# Altium integrated library NXP_60_26022015.IntLib: 1306 symbols (part 22 of 28)
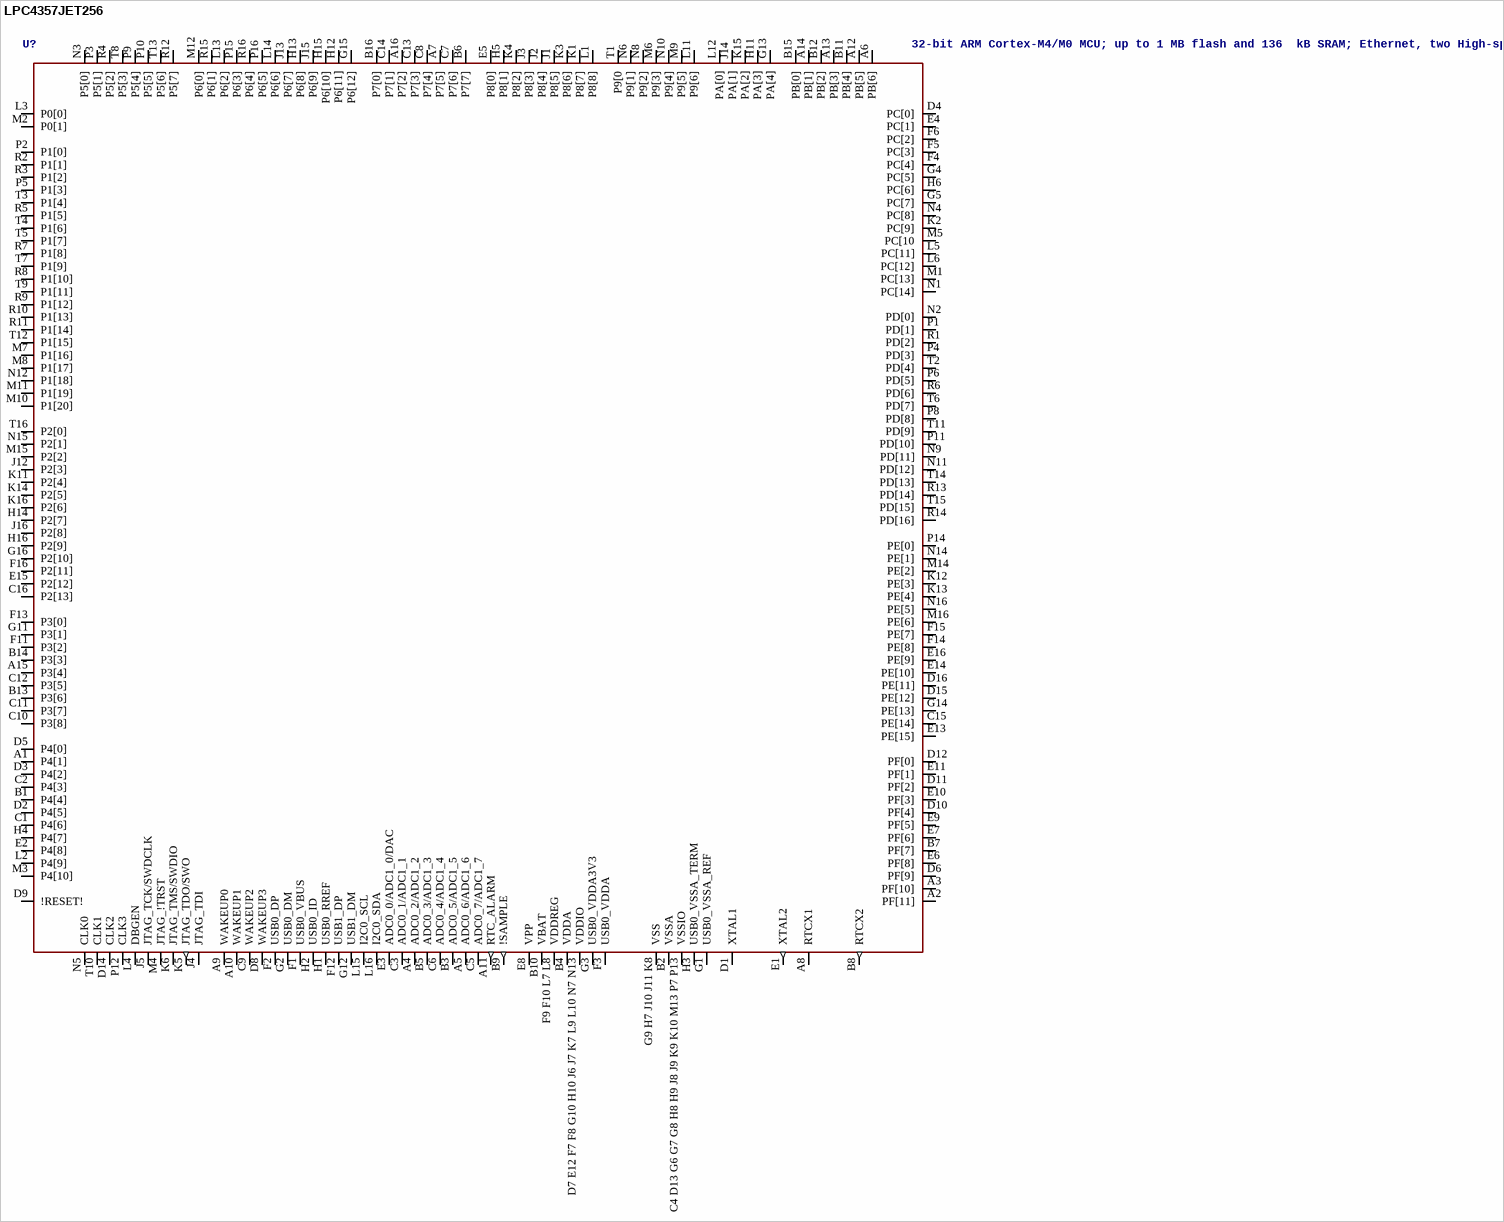
[diagram p206: symbol LPC4357JET256]

## LPC4357JET256
designator U?, comment 32-bit ARM Cortex-M4/M0 MCU; up to 1 MB flash and 136  kB SRAM; Ethernet, two High-speed USB, LCD, EMC The LPC435x/3x/2x/1x are ARM Cortex-M4 based microcontrollers for embedded applications which include an ARM Cortex-M0 coprocessor, up to 1 MB of flash and 136 kB of on-chip SRAM, 16 kB of EEPROM memory, a quad SPI Flash Interface (SPIFI), advanced configurable peripherals such as the State Configurable Timer (SCT) and the Serial General Purpose I/O (SGPIO) interface, two High-speed USB controllers, Ethernet, LCD, an external memory controller, and multiple digital and analog peripherals. The LPC435x/3x/2x/1x operate at CPU frequencies of up to 204 MHz. The ARM Cortex-M4 is a next generation 32-bit core that offers system enhancements such as low power consumption, enhanced debug features, and a high level of support block integration. The ARM Cortex-M4 CPU incorporates a 3-stage pipeline, uses a Harvard architecture with separate local instruction and data buses as well as a third bus for peripherals, and includes an internal prefetch unit that supports speculative branching. The ARM Cortex-M4 supports single-cycle digital signal processing and SIMD instructions. A hardware floating-point unit is integrated in the core. The ARM Cortex-M0 coprocessor is an energy-efficient and easy-to-use 32-bit core which is upward code- and tool-compatible with the Cortex-M4 core. The Cortex-M0 coprocessor, designed as a replacement for existing 8/16-bit microcontrollers, offers up to 204 MHz performance with a simple instruction set and reduced code size.    AAL Eindhoven MK
footprint SOT740-2
pins: A1 P4[1], A2 PF[11], A3 PF[10], A4 ADC0_2/ADC1_2, A5 ADC0_6/ADC1_6, A6 PB[6], A7 P7[5], A8 RTCX1, A9 WAKEUP0, A10 WAKEUP1, A11 RTC_ALARM (out), A12 PB[5], A13 PB[3], A14 PB[1], A15 P3[4], A16 P7[2], B1 P4[4], B2 VSSA (power), B3 ADC0_5/ADC1_5, B4 VDDA (power), B5 ADC0_3/ADC1_3, B6 P7[7], B7 PF[7], B8 RTCX2 (out), B9 !SAMPLE (out), B10 VBAT (power), B11 PB[4], B12 PB[2], B13 P3[6], B14 P3[3], B15 PB[0], B16 P7[0], C1 P4[6], C2 P4[3], C3 ADC0_1/ADC1_1, C4 D13 G6 G7 G8 H8 H9 J8 J9 K9 K10 M13 P7 P13 VSSIO (power), C5 ADC0_7/ADC1_7, C6 ADC0_4/ADC1_4, C7 P7[6], C8 P7[4], C9 WAKEUP2, C10 P3[8], C11 P3[7], C12 P3[5], C13 P7[3], C14 P7[1], C15 PE[14], C16 P2[13], D1 XTAL1, D2 P4[5], D3 P4[2], D4 PC[0], D5 P4[0], D6 PF[9], D7 E12 F7 F8 G10 H10 J6 J7 K7 L9 L10 N7 N13 VDDIO (power), D8 WAKEUP3, D9 !RESET!, D10 PF[4], D11 PF[2], D12 PF[0], D14 CLK2, D15 PE[12], D16 PE[11], E1 XTAL2 (out), E2 P4[8], E3 ADC0_0/ADC1_0/DAC, E4 PC[1], E5 P8[0], E6 PF[8], E7 PF[6], E8 VPP (power), E9 PF[5], E10 PF[3], E11 PF[1], E13 PE[15], E14 PE[10], E15 P2[12], E16 PE[9], F1 USB0_VBUS, F2 USB0_DP, F3 USB0_VDDA (power), F4 PC[4], F5 PC[3], F6 PC[2], F9 F10 L7 L8 VDDREG (power), F11 P3[2], F12 USB1_DP, F13 P3[0], F14 PE[8], F15 PE[7], F16 P2[11], G1 USB0_VSSA_REF (power), G2 USB0_DM, G3 USB0_VDDA3V3 (power), G4 PC[5], G5 PC[7], G9 H7 J10 J11 K8 VSS (power), G11 P3[1], G12 USB1_DM, G13 PA[4], G14 PE[13], G15 P6[12], G16 P2[10], H1 USB0_RREF, H2 USB0_ID, H3 USB0_VSSA_TERM (power), H4 P4[7], H5 P8[1], H6 PC[6], H11 PA[3], H12 P6[11], H13 P6[8], H14 P2[7], H15 P6[10], H16 P2[9], J1 P8[5], J2 P8[4], J3 P8[3], J4 JTAG_TDI, J5 JTAG_TCK/SWDCLK, J12 P2[3], J13 P6[7], J14 PA[1], J15 P6[9], J16 P2[8], K1 P8[7], K2 PC[9], K3 P8[6], K4 P8[2], K5 JTAG_TDO/SWO (out), K6 JTAG_TMS/SWDIO, K11 P2[4], K12 PE[3], K13 PE[4], K14 P2[5], K15 PA[2], K16 P2[6], L1 P8[8], L2 P4[9], L3 P0[0], L4 DBGEN, L5 PC[11], L6 PC[12], L11 P9[6], L12 PA[0], L13 P6[2], L14 P6[6], L15 I2C0_SCL, L16 I2C0_SDA, M1 PC[13], M2 P0[1], M3 P4[10], M4 JTAG_!TRST, M5 PC[10, M6 P9[3], M7 P1[16], M8 P1[17], M9 P9[5], M10 P1[20], M11 P1[19], M12 P6[0], M14 PE[2], M15 P2[2], M16 PE[6], N1 PC[14], N2 PD[0], N3 P5[0], N4 PC[8], N5 CLK0, N6 P9[1], N8 P9[2], N9 PD[11], N10 P9[4], N11 PD[12], N12 P1[18], N14 PE[1], N15 P2[1], N16 PE[5], P1 PD[1], P2 P1[0], P3 P5[1], P4 PD[3], P5 P1[3], P6 PD[5], P8 PD[8], P9 P5[4], P10 P5[5], P11 PD[10], P12 CLK3, P14 PE[0], P15 P6[3], P16 P6[5], R1 PD[2], R2 P1[1], R3 P1[2], R4 P5[2], R5 P1[5], R6 PD[6], R7 P1[8], R8 P1[10], R9 P1[12], R10 P1[13], R11 P1[14], R12 P5[7], R13 PD[14], R14 PD[16], R15 P6[1], R16 P6[4], T1 P9[0, T2 PD[4], T3 P1[4], T4 P1[6], T5 P1[7], T6 PD[7], T7 P1[9], T8 P5[3], T9 P1[11], T10 CLK1, T11 PD[9], T12 P1[15], T13 P5[6], T14 PD[13], T15 PD[15], T16 P2[0]

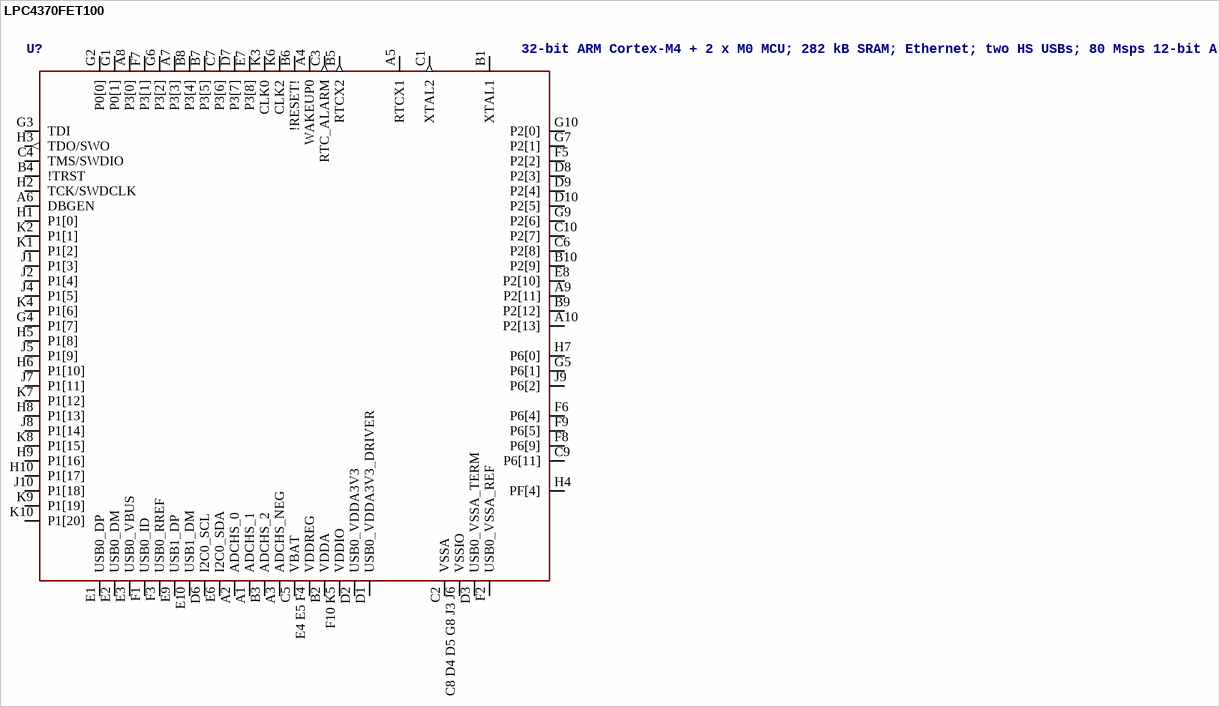
[diagram p150: symbol LPC4370FET100]

## LPC4370FET100
designator U?, comment 32-bit ARM Cortex-M4 + 2 x M0 MCU; 282 kB SRAM; Ethernet; two HS USBs; 80 Msps 12-bit ADC; configurable peripherals The LPC4370 are ARM Cortex-M4 based microcontrollers for embedded applications which include an ARM Cortex-M0 coprocessor and an ARM Cortex-M0 subsystem for managing peripherals, 282 kB of SRAM, advanced configurable peripherals such as the State Configurable Timer (SCT) and the Serial General Purpose I/O (SGPIO) interface, two High-speed USB controllers, Ethernet, LCD, an external memory controller, and multiple digital and analog peripherals including a high-speed 12-bit ADC. The LPC4370 operate at CPU frequencies of up to 204 MHz. The ARM Cortex-M4 is a next generation 32-bit core that offers system enhancements such as low power consumption, enhanced debug features, and a high level of support block integration. The ARM Cortex-M4 CPU incorporates a 3-stage pipeline, uses a Harvard architecture with separate local instruction and data buses as well as a third bus for peripherals, and includes an internal prefetch unit that supports speculative branching. The ARM Cortex-M4 supports single-cycle digital signal processing and SIMD instructions. A hardware floating-point processor is integrated in the core. The LPC4370 include an application ARM Cortex-M0 coprocessor and a second ARM Cortex-M0 subsystem for managing the SGPIO and SPI peripherals. The ARM Cortex-M0 core is an energy-efficient and easy-to-use 32-bit core which is code- and tool-compatible with the Cortex-M4 core. Both Cortex-M0 cores offer up to 204 MHz performance with a simple instruction set and reduced code size.    AAL Eindhoven MK
footprint SOT926-1
pins: A1 ADCHS_1, A2 ADCHS_0, A3 ADCHS_NEG, A4 WAKEUP0, A5 RTCX1, A6 DBGEN, A7 P3[3], A8 P3[0], A9 P2[11], A10 P2[13], B1 XTAL1, B2 VDDA (power), B3 ADCHS_2, B4 !TRST, B5 RTCX2 (out), B6 !RESET!, B7 P3[5], B8 P3[4], B9 P2[12], B10 P2[9], C1 XTAL2 (out), C2 VSSA (power), C3 RTC_ALARM (out), C4 TMS/SWDIO, C5 VBAT (power), C6 P2[8], C7 P3[6], C8 D4 D5 G8 J3 J6 VSSIO (power), C9 P6[11], C10 P2[7], D1 USB0_VDDA3V3_DRIVER (power), D2 USB0_VDDA3V3 (power), D3 USB0_VSSA_TERM (power), D6 I2C0_SCL, D7 P3[7], D8 P2[3], D9 P2[4], D10 P2[5], E1 USB0_DP, E2 USB0_DM, E3 USB0_VBUS, E4 E5 F4 VDDREG (power), E6 I2C0_SDA, E7 P3[8], E8 P2[10], E9 USB1_DP, E10 USB1_DM, F1 USB0_ID, F2 USB0_VSSA_REF (power), F3 USB0_RREF, F5 P2[2], F6 P6[4], F7 P3[1], F8 P6[9], F9 P6[5], F10 K5 VDDIO (power), G1 P0[1], G2 P0[0], G3 TDI, G4 P1[7], G5 P6[1], G6 P3[2], G7 P2[1], G9 P2[6], G10 P2[0], H1 P1[0], H2 TCK/SWDCLK, H3 TDO/SWO (out), H4 PF[4], H5 P1[8], H6 P1[10], H7 P6[0], H8 P1[13], H9 P1[16], H10 P1[17], J1 P1[3], J2 P1[4], J4 P1[5], J5 P1[9], J7 P1[11], J8 P1[14], J9 P6[2], J10 P1[18], K1 P1[2], K2 P1[1], K3 CLK0, K4 P1[6], K6 CLK2, K7 P1[12], K8 P1[15], K9 P1[19], K10 P1[20]

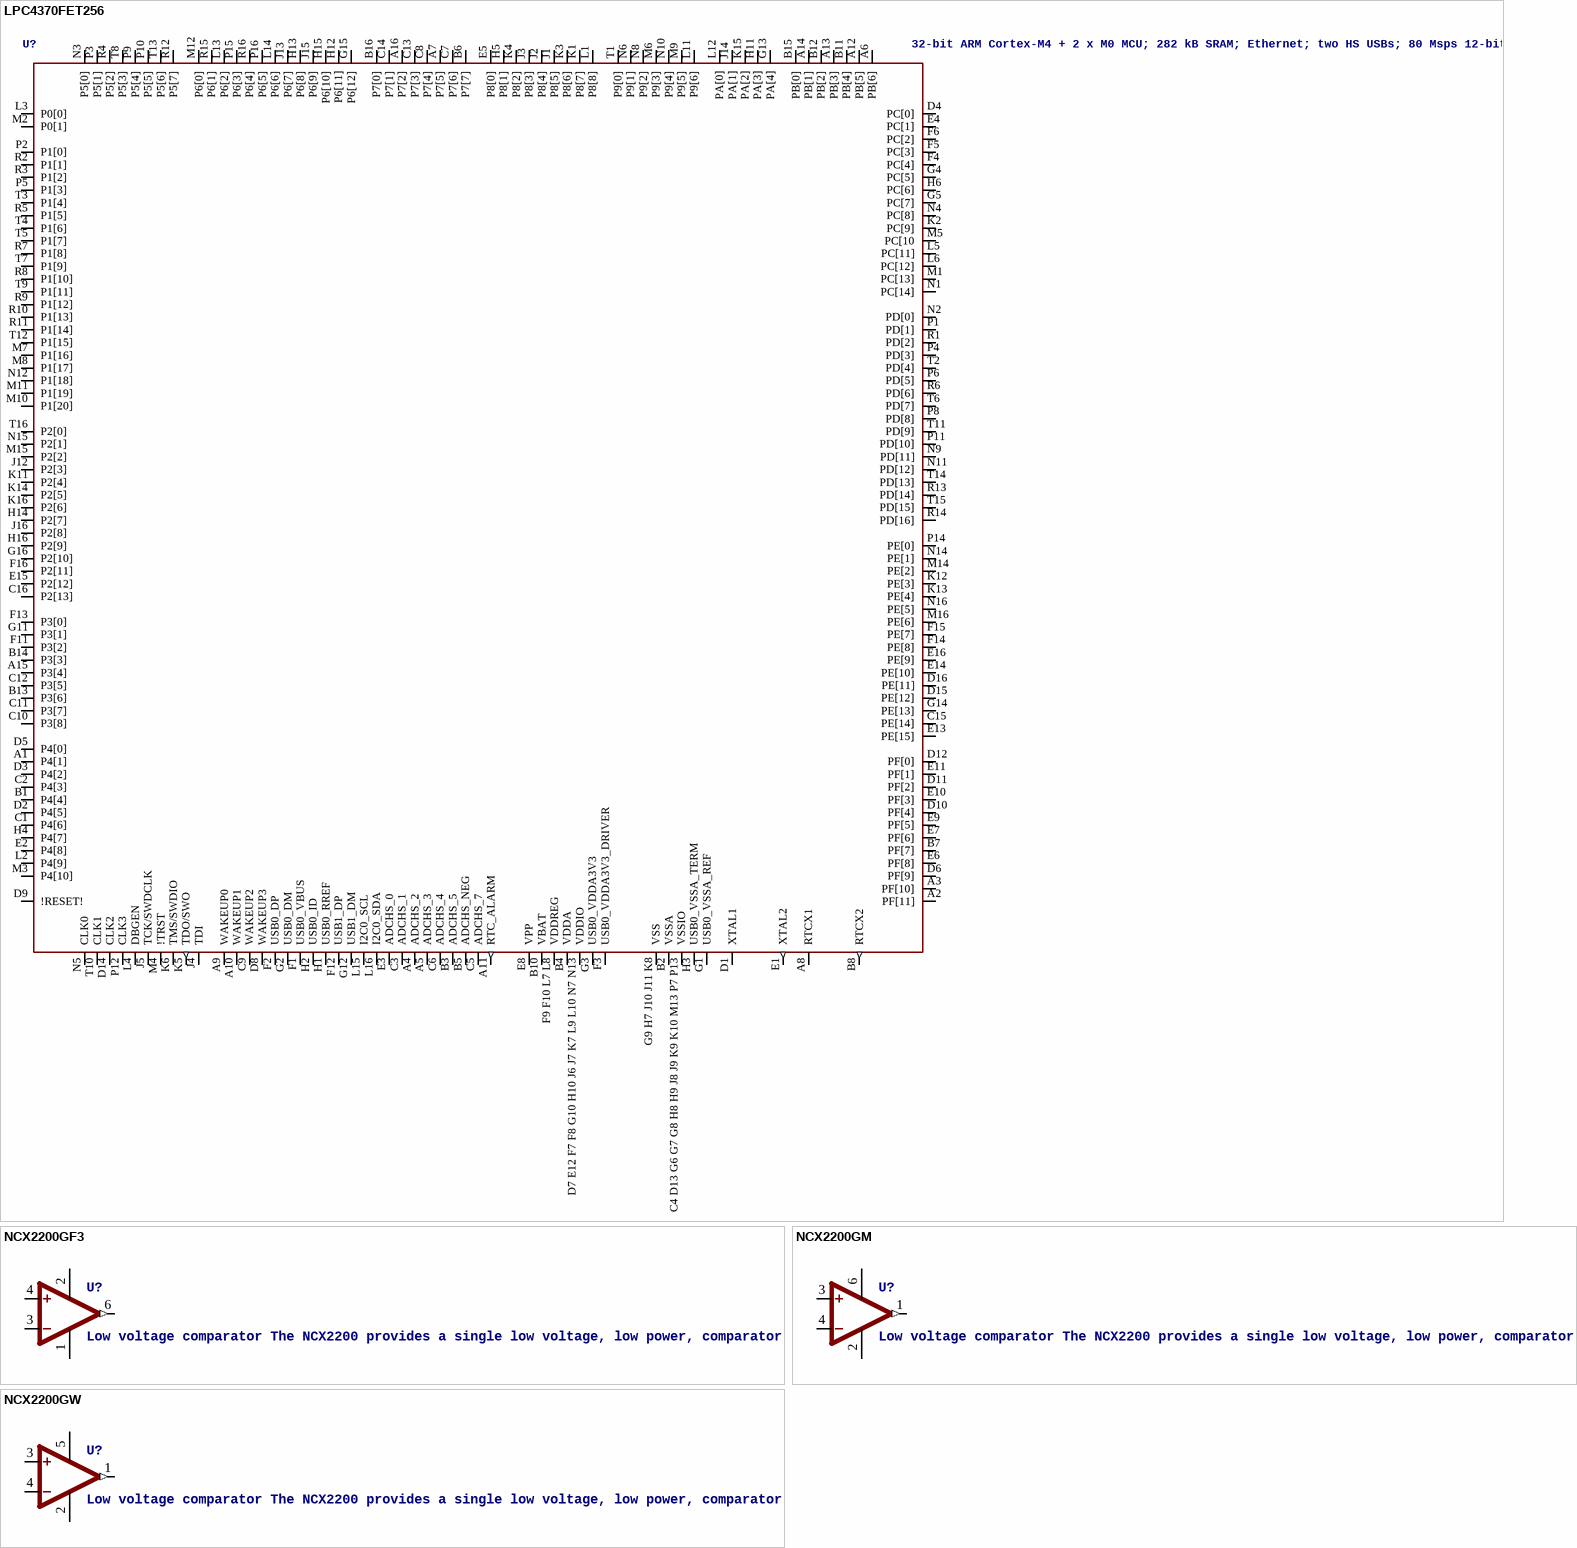
[diagram p151: symbols LPC4370FET256 to NCX2200GW]

## LPC4370FET256
designator U?, comment 32-bit ARM Cortex-M4 + 2 x M0 MCU; 282 kB SRAM; Ethernet; two HS USBs; 80 Msps 12-bit ADC; configurable peripherals The LPC4370 are ARM Cortex-M4 based microcontrollers for embedded applications which include an ARM Cortex-M0 coprocessor and an ARM Cortex-M0 subsystem for managing peripherals, 282 kB of SRAM, advanced configurable peripherals such as the State Configurable Timer (SCT) and the Serial General Purpose I/O (SGPIO) interface, two High-speed USB controllers, Ethernet, LCD, an external memory controller, and multiple digital and analog peripherals including a high-speed 12-bit ADC. The LPC4370 operate at CPU frequencies of up to 204 MHz. The ARM Cortex-M4 is a next generation 32-bit core that offers system enhancements such as low power consumption, enhanced debug features, and a high level of support block integration. The ARM Cortex-M4 CPU incorporates a 3-stage pipeline, uses a Harvard architecture with separate local instruction and data buses as well as a third bus for peripherals, and includes an internal prefetch unit that supports speculative branching. The ARM Cortex-M4 supports single-cycle digital signal processing and SIMD instructions. A hardware floating-point processor is integrated in the core. The LPC4370 include an application ARM Cortex-M0 coprocessor and a second ARM Cortex-M0 subsystem for managing the SGPIO and SPI peripherals. The ARM Cortex-M0 core is an energy-efficient and easy-to-use 32-bit core which is code- and tool-compatible with the Cortex-M4 core. Both Cortex-M0 cores offer up to 204 MHz performance with a simple instruction set and reduced code size.    AAL Eindhoven MK
footprint SOT740-2
pins: A1 P4[1], A2 PF[11], A3 PF[10], A4 ADCHS_2, A5 ADCHS_3, A6 PB[6], A7 P7[5], A8 RTCX1, A9 WAKEUP0, A10 WAKEUP1, A11 RTC_ALARM (out), A12 PB[5], A13 PB[3], A14 PB[1], A15 P3[4], A16 P7[2], B1 P4[4], B2 VSSA (power), B3 ADCHS_5, B4 VDDA (power), B5 ADCHS_NEG, B6 P7[7], B7 PF[7], B8 RTCX2 (out), B10 VBAT (power), B11 PB[4], B12 PB[2], B13 P3[6], B14 P3[3], B15 PB[0], B16 P7[0], C1 P4[6], C2 P4[3], C3 ADCHS_1, C4 D13 G6 G7 G8 H8 H9 J8 J9 K9 K10 M13 P7 P13 VSSIO (power), C5 ADCHS_7, C6 ADCHS_4, C7 P7[6], C8 P7[4], C9 WAKEUP2, C10 P3[8], C11 P3[7], C12 P3[5], C13 P7[3], C14 P7[1], C15 PE[14], C16 P2[13], D1 XTAL1, D2 P4[5], D3 P4[2], D4 PC[0], D5 P4[0], D6 PF[9], D7 E12 F7 F8 G10 H10 J6 J7 K7 L9 L10 N7 N13 VDDIO (power), D8 WAKEUP3, D9 !RESET!, D10 PF[4], D11 PF[2], D12 PF[0], D14 CLK2, D15 PE[12], D16 PE[11], E1 XTAL2 (out), E2 P4[8], E3 ADCHS_0, E4 PC[1], E5 P8[0], E6 PF[8], E7 PF[6], E8 VPP (power), E9 PF[5], E10 PF[3], E11 PF[1], E13 PE[15], E14 PE[10], E15 P2[12], E16 PE[9], F1 USB0_VBUS, F2 USB0_DP, F3 USB0_VDDA3V3_DRIVER (power), F4 PC[4], F5 PC[3], F6 PC[2], F9 F10 L7 L8 VDDREG (power), F11 P3[2], F12 USB1_DP, F13 P3[0], F14 PE[8], F15 PE[7], F16 P2[11], G1 USB0_VSSA_REF (power), G2 USB0_DM, G3 USB0_VDDA3V3 (power), G4 PC[5], G5 PC[7], G9 H7 J10 J11 K8 VSS (power), G11 P3[1], G12 USB1_DM, G13 PA[4], G14 PE[13], G15 P6[12], G16 P2[10], H1 USB0_RREF, H2 USB0_ID, H3 USB0_VSSA_TERM (power), H4 P4[7], H5 P8[1], H6 PC[6], H11 PA[3], H12 P6[11], H13 P6[8], H14 P2[7], H15 P6[10], H16 P2[9], J1 P8[5], J2 P8[4], J3 P8[3], J4 TDI, J5 TCK/SWDCLK, J12 P2[3], J13 P6[7], J14 PA[1], J15 P6[9], J16 P2[8], K1 P8[7], K2 PC[9], K3 P8[6], K4 P8[2], K5 TDO/SWO (out), K6 TMS/SWDIO, K11 P2[4], K12 PE[3], K13 PE[4], K14 P2[5], K15 PA[2], K16 P2[6], L1 P8[8], L2 P4[9], L3 P0[0], L4 DBGEN, L5 PC[11], L6 PC[12], L11 P9[6], L12 PA[0], L13 P6[2], L14 P6[6], L15 I2C0_SCL, L16 I2C0_SDA, M1 PC[13], M2 P0[1], M3 P4[10], M4 !TRST, M5 PC[10, M6 P9[3], M7 P1[16], M8 P1[17], M9 P9[5], M10 P1[20], M11 P1[19], M12 P6[0], M14 PE[2], M15 P2[2], M16 PE[6], N1 PC[14], N2 PD[0], N3 P5[0], N4 PC[8], N5 CLK0, N6 P9[1], N8 P9[2], N9 PD[11], N10 P9[4], N11 PD[12], N12 P1[18], N14 PE[1], N15 P2[1], N16 PE[5], P1 PD[1], P2 P1[0], P3 P5[1], P4 PD[3], P5 P1[3], P6 PD[5], P8 PD[8], P9 P5[4], P10 P5[5], P11 PD[10], P12 CLK3, P14 PE[0], P15 P6[3], P16 P6[5], R1 PD[2], R2 P1[1], R3 P1[2], R4 P5[2], R5 P1[5], R6 PD[6], R7 P1[8], R8 P1[10], R9 P1[12], R10 P1[13], R11 P1[14], R12 P5[7], R13 PD[14], R14 PD[16], R15 P6[1], R16 P6[4], T1 P9[0], T2 PD[4], T3 P1[4], T4 P1[6], T5 P1[7], T6 PD[7], T7 P1[9], T8 P5[3], T9 P1[11], T10 CLK1, T11 PD[9], T12 P1[15], T13 P5[6], T14 PD[13], T15 PD[15], T16 P2[0]

## NCX2200GF3
designator U?, comment Low voltage comparator The NCX2200 provides a single low voltage, low power, comparator. The NCX2200 has a very low supply current of 6 A and is guaranteed to operate at a low voltage of 1.3 V and is fully operational up to 5.5 V. These characteristics make the device convenient for use in both 3.0 V and 5.0 V systems.   AAL Eindhoven MK
footprint SOT891
pins: 1 VEE (power), 2 VCC (power), 3 -IN, 4 +IN, 6 OUT (out)

## NCX2200GM
designator U?, comment Low voltage comparator The NCX2200 provides a single low voltage, low power, comparator. The NCX2200 has a very low supply current of 6 A and is guaranteed to operate at a low voltage of 1.3 V and is fully operational up to 5.5 V. These characteristics make the device convenient for use in both 3.0 V and 5.0 V systems.   AAL Eindhoven MK
footprint SOT886
pins: 1 OUT (out), 2 VEE (power), 3 +IN, 4 -IN, 6 VCC (power)

## NCX2200GW
designator U?, comment Low voltage comparator The NCX2200 provides a single low voltage, low power, comparator. The NCX2200 has a very low supply current of 6 A and is guaranteed to operate at a low voltage of 1.3 V and is fully operational up to 5.5 V. These characteristics make the device convenient for use in both 3.0 V and 5.0 V systems.   AAL Eindhoven MK
footprint SOT353-1
pins: 1 OUT (out), 2 VEE (power), 3 +IN, 4 -IN, 5 VCC (power)

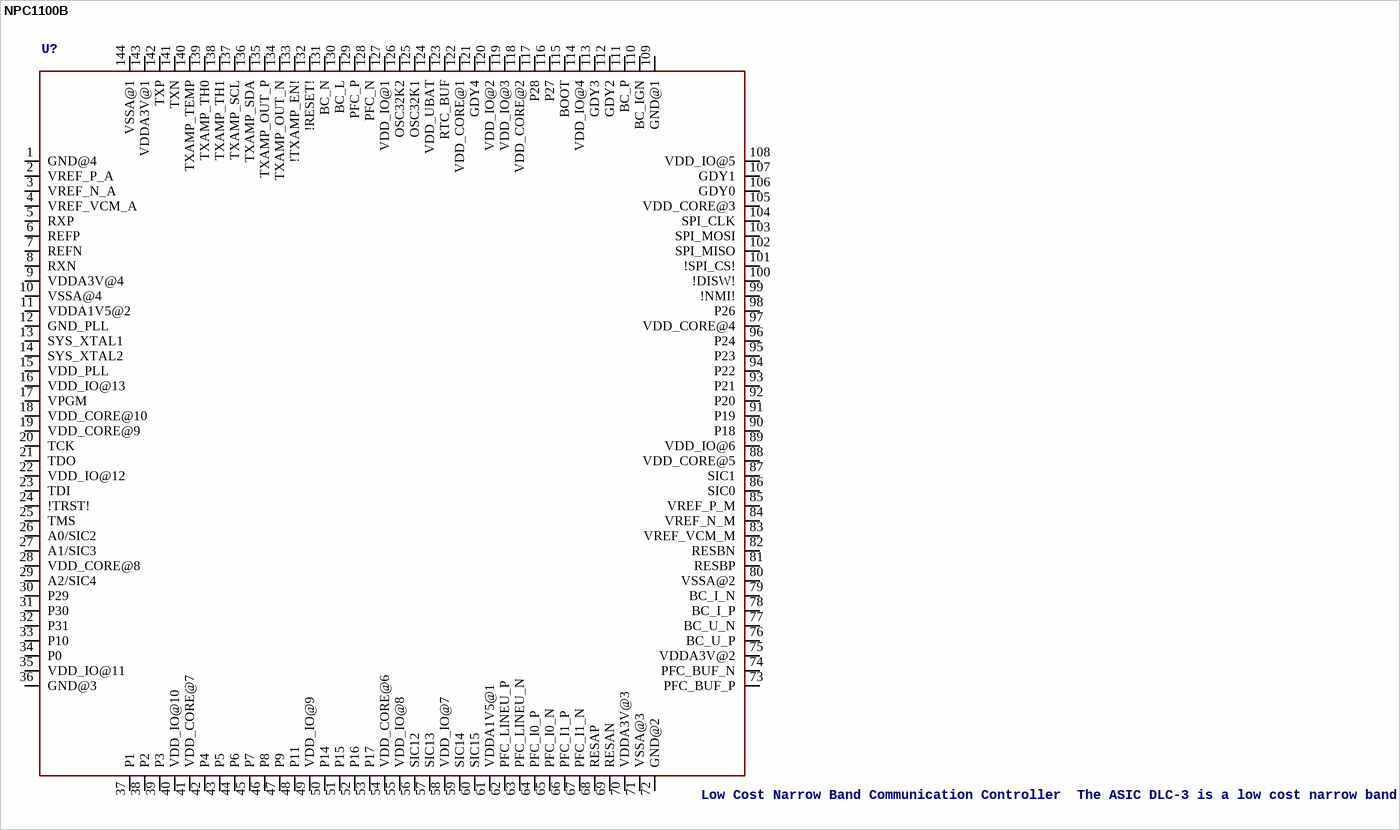
[diagram p152: symbol NPC1100B]

## NPC1100B
designator U?, comment Low Cost Narrow Band Communication Controller  The ASIC DLC-3 is a low cost narrow band communication controller MCM (Multi Carrier Modulation) and power line chip. The integrated ARMÒ CortexTM CPU, memory and common interfaces makes it possible to build different systems with a minimum of external components. For communication with DLC-3 the most popular interfaces like Ethernet MII, SPI, several freely configurable serial interfaces and general IO ports for CPU and DSC are included. The ASIC includes all components for a power-line communication while Analog Front End and Power Amplifier are already integrated. With its On-Chip Power-Factor-Correction, Ballast Control and 4 PWM outputs the LCI is a optimal solution for lighting control units. The freely configurable serial interfaces makes it easy to build electronic power meters for smart-metering applications.   AAL Eindhoven MK
footprint SOT486-1
pins: 1 GND@4, 2 VREF_P_A, 3 VREF_N_A, 4 VREF_VCM_A, 5 RXP, 6 REFP, 7 REFN, 8 RXN, 9 VDDA3V@4, 10 VSSA@4, 11 VDDA1V5@2, 12 GND_PLL, 13 SYS_XTAL1, 14 SYS_XTAL2, 15 VDD_PLL, 16 VDD_IO@13, 17 VPGM, 18 VDD_CORE@10, 19 VDD_CORE@9, 20 TCK, 21 TDO, 22 VDD_IO@12, 23 TDI, 24 !TRST!, 25 TMS, 26 A0/SIC2, 27 A1/SIC3, 28 VDD_CORE@8, 29 A2/SIC4, 30 P29, 31 P30, 32 P31, 33 P10, 34 P0, 35 VDD_IO@11, 36 GND@3, 37 P1, 38 P2, 39 P3, 40 VDD_IO@10, 41 VDD_CORE@7, 42 P4, 43 P5, 44 P6, 45 P7, 46 P8, 47 P9, 48 P11, 49 VDD_IO@9, 50 P14, 51 P15, 52 P16, 53 P17, 54 VDD_CORE@6, 55 VDD_IO@8, 56 SIC12, 57 SIC13, 58 VDD_IO@7, 59 SIC14, 60 SIC15, 61 VDDA1V5@1, 62 PFC_LINEU_P, 63 PFC_LINEU_N, 64 PFC_I0_P, 65 PFC_I0_N, 66 PFC_I1_P, 67 PFC_I1_N, 68 RESAP, 69 RESAN, 70 VDDA3V@3, 71 VSSA@3, 72 GND@2, 73 PFC_BUF_P, 74 PFC_BUF_N, 75 VDDA3V@2, 76 BC_U_P, 77 BC_U_N, 78 BC_I_P, 79 BC_I_N, 80 VSSA@2, 81 RESBP, 82 RESBN, 83 VREF_VCM_M, 84 VREF_N_M, 85 VREF_P_M, 86 SIC0, 87 SIC1, 88 VDD_CORE@5, 89 VDD_IO@6, 90 P18, 91 P19, 92 P20, 93 P21, 94 P22, 95 P23, 96 P24, 97 VDD_CORE@4, 98 P26, 99 !NMI!, 100 !DISW!, 101 !SPI_CS!, 102 SPI_MISO, 103 SPI_MOSI, 104 SPI_CLK, 105 VDD_CORE@3, 106 GDY0, 107 GDY1, 108 VDD_IO@5, 109 GND@1, 110 BC_IGN, 111 BC_P, 112 GDY2, 113 GDY3, 114 VDD_IO@4, 115 BOOT, 116 P27, 117 P28, 118 VDD_CORE@2, 119 VDD_IO@3, 120 VDD_IO@2, 121 GDY4, 122 VDD_CORE@1, 123 RTC_BUF, 124 VDD_UBAT, 125 OSC32K1, 126 OSC32K2, 127 VDD_IO@1, 128 PFC_N, 129 PFC_P, 130 BC_L, 131 BC_N, 132 !RESET!, 133 !TXAMP_EN!, 134 TXAMP_OUT_N, 135 TXAMP_OUT_P, 136 TXAMP_SDA, 137 TXAMP_SCL, 138 TXAMP_TH1, 139 TXAMP_TH0, 140 TXAMP_TEMP, 141 TXN, 142 TXP, 143 VDDA3V@1, 144 VSSA@1

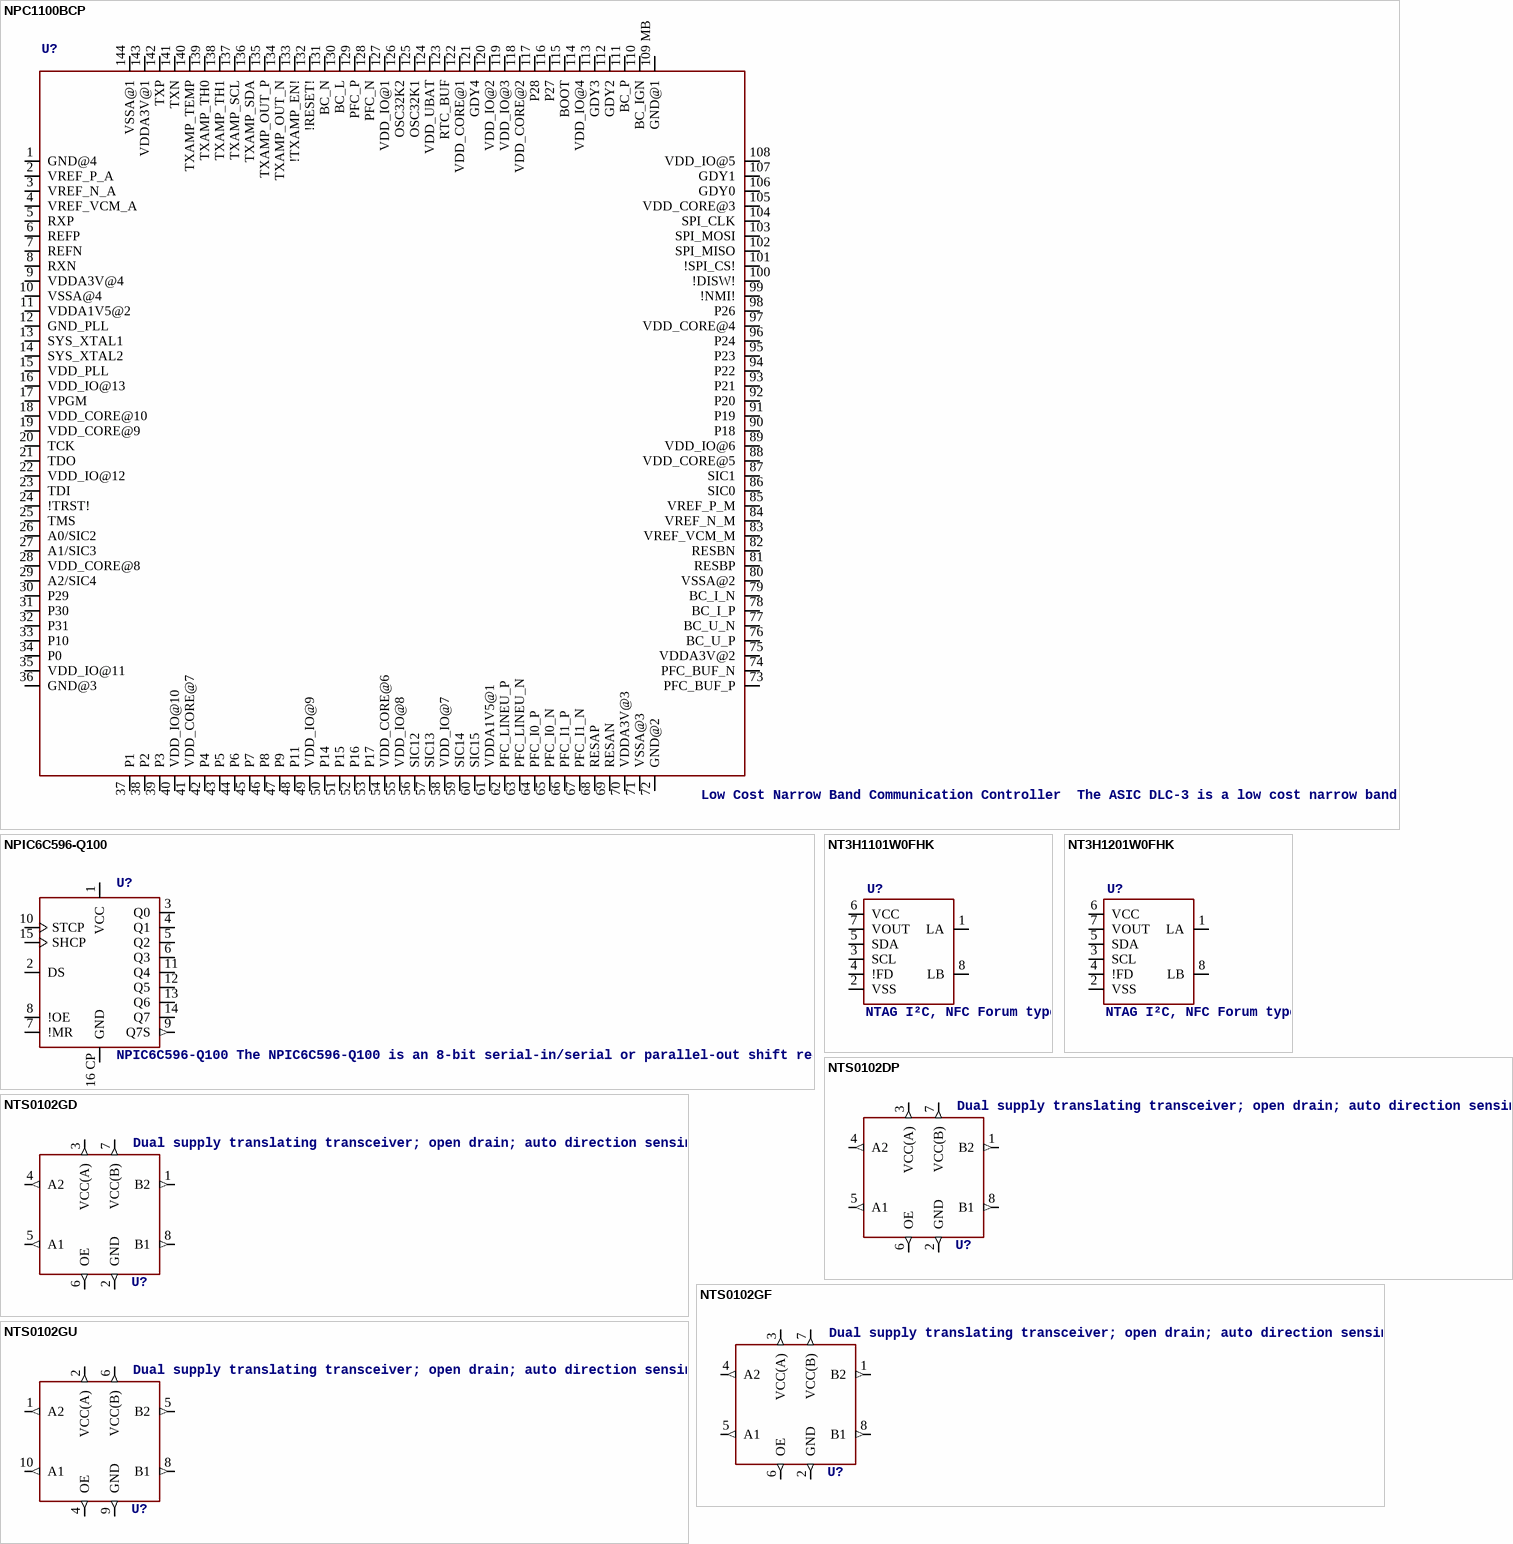
[diagram p153: symbols NPC1100BCP to NTS0102GU]

## NPC1100BCP
designator U?, comment Low Cost Narrow Band Communication Controller  The ASIC DLC-3 is a low cost narrow band communication controller MCM (Multi Carrier Modulation) and power line chip. The integrated ARMÒ CortexTM CPU, memory and common interfaces makes it possible to build different systems with a minimum of external components. For communication with DLC-3 the most popular interfaces like Ethernet MII, SPI, several freely configurable serial interfaces and general IO ports for CPU and DSC are included. The ASIC includes all components for a power-line communication while Analog Front End and Power Amplifier are already integrated. With its On-Chip Power-Factor-Correction, Ballast Control and 4 PWM outputs the LCI is a optimal solution for lighting control units. The freely configurable serial interfaces makes it easy to build electronic power meters for smart-metering applications.   AAL Eindhoven MK
footprint SOT486-1MK
pins: 1 GND@4, 2 VREF_P_A, 3 VREF_N_A, 4 VREF_VCM_A, 5 RXP, 6 REFP, 7 REFN, 8 RXN, 9 VDDA3V@4, 10 VSSA@4, 11 VDDA1V5@2, 12 GND_PLL, 13 SYS_XTAL1, 14 SYS_XTAL2, 15 VDD_PLL, 16 VDD_IO@13, 17 VPGM, 18 VDD_CORE@10, 19 VDD_CORE@9, 20 TCK, 21 TDO, 22 VDD_IO@12, 23 TDI, 24 !TRST!, 25 TMS, 26 A0/SIC2, 27 A1/SIC3, 28 VDD_CORE@8, 29 A2/SIC4, 30 P29, 31 P30, 32 P31, 33 P10, 34 P0, 35 VDD_IO@11, 36 GND@3, 37 P1, 38 P2, 39 P3, 40 VDD_IO@10, 41 VDD_CORE@7, 42 P4, 43 P5, 44 P6, 45 P7, 46 P8, 47 P9, 48 P11, 49 VDD_IO@9, 50 P14, 51 P15, 52 P16, 53 P17, 54 VDD_CORE@6, 55 VDD_IO@8, 56 SIC12, 57 SIC13, 58 VDD_IO@7, 59 SIC14, 60 SIC15, 61 VDDA1V5@1, 62 PFC_LINEU_P, 63 PFC_LINEU_N, 64 PFC_I0_P, 65 PFC_I0_N, 66 PFC_I1_P, 67 PFC_I1_N, 68 RESAP, 69 RESAN, 70 VDDA3V@3, 71 VSSA@3, 72 GND@2, 73 PFC_BUF_P, 74 PFC_BUF_N, 75 VDDA3V@2, 76 BC_U_P, 77 BC_U_N, 78 BC_I_P, 79 BC_I_N, 80 VSSA@2, 81 RESBP, 82 RESBN, 83 VREF_VCM_M, 84 VREF_N_M, 85 VREF_P_M, 86 SIC0, 87 SIC1, 88 VDD_CORE@5, 89 VDD_IO@6, 90 P18, 91 P19, 92 P20, 93 P21, 94 P22, 95 P23, 96 P24, 97 VDD_CORE@4, 98 P26, 99 !NMI!, 100 !DISW!, 101 !SPI_CS!, 102 SPI_MISO, 103 SPI_MOSI, 104 SPI_CLK, 105 VDD_CORE@3, 106 GDY0, 107 GDY1, 108 VDD_IO@5, 109 MB GND@1, 110 BC_IGN, 111 BC_P, 112 GDY2, 113 GDY3, 114 VDD_IO@4, 115 BOOT, 116 P27, 117 P28, 118 VDD_CORE@2, 119 VDD_IO@3, 120 VDD_IO@2, 121 GDY4, 122 VDD_CORE@1, 123 RTC_BUF, 124 VDD_UBAT, 125 OSC32K1, 126 OSC32K2, 127 VDD_IO@1, 128 PFC_N, 129 PFC_P, 130 BC_L, 131 BC_N, 132 !RESET!, 133 !TXAMP_EN!, 134 TXAMP_OUT_N, 135 TXAMP_OUT_P, 136 TXAMP_SDA, 137 TXAMP_SCL, 138 TXAMP_TH1, 139 TXAMP_TH0, 140 TXAMP_TEMP, 141 TXN, 142 TXP, 143 VDDA3V@1, 144 VSSA@1

## NPIC6C596-Q100
designator U?, comment NPIC6C596-Q100 The NPIC6C596-Q100 is an 8-bit serial-in/serial or parallel-out shift register with a storage register and open-drain outputs. Both the shift and storage register have separate clocks. The device features a serial input (DS) and a serial output (Q7S) to enable cascading and an asynchronous reset MR input. A LOW on MR resets both the shift register and storage register. Data is shifted on the LOW-to-HIGH transitions of the SHCP input. The data in the shift register is transferred to the storage register on a LOW-to-HIGH transition of the STCP input. If both clocks are connected together, the shift register is always one clock pulse ahead of the storage register. To provide additional hold time in cascaded applications, the serial output QS7 is clocked out on the falling edge of SHCP. Data in the storage register drives the gate of the output extended-drain NMOS (EDNMOS) transistor whenever the output enable input (OE) is LOW. A HIGH on OE causes the outputs to assume a high-impedance OFF-state. Operation of the OE input does not affect the state of the registers. The open-drain outputs are 33 V/100 mA continuous current extended-drain NMOS transistors designed for use in systems that require moderate load power such as LEDs. Integrated voltage clamps in the outputs provide protection against inductive transients making the device suitable for power driver applications such as relays, solenoids and other low-current or medium-voltage loads. This product has been qualified to the Automotive Electronics Council (AEC) standard Q100 (Grade 1) and is suitable for use in automotive applications    AAL Eindhoven MK
footprint SOT763
pins: 1 VCC, 2 DS, 3 Q0 (oc), 4 Q1 (oc), 5 Q2 (oc), 6 Q3 (oc), 7 !MR, 8 !OE, 9 Q7S (out), 10 STCP, 11 Q4 (oc), 12 Q5 (oc), 13 Q6 (oc), 14 Q7 (oc), 15 SHCP, 16 CP GND

## NT3H1101W0FHK
designator U?, comment NTAG I²C, NFC Forum type 2 Tag compliant IC with I²C interface The NTAG I2C is the first product of NXP’s NTAG family offering both contactless and contact interfaces (see Figure 1). In addition to the passive NFC Forum compliant contactless interface, the IC features an I²C contact interface, which can communicate with a microcontroller if the NTAG I2C is powered from an external power supply. An additional externally powered SRAM mapped into the memory allows a fast data transfer between the RF and I²C interfaces and vice versa, without the write cycle limitations of the EEPROM memory. The NTAG I2C product features a configurable Field Detection Pin, which provides a trigger to an external device depending on the activities at the RF interface. The NTAG I2C product can also supply power to external (low power) devices (e.g., a microcontroller) via the embedded energy harvesting circuitry    AAL Eindhoven MK
footprint SOT902-1/2/3
pins: 1 LA, 2 VSS, 3 SCL, 4 !FD, 5 SDA, 6 VCC, 7 VOUT, 8 LB

## NT3H1201W0FHK
designator U?, comment NTAG I²C, NFC Forum type 2 Tag compliant IC with I²C interface The NTAG I2C is the first product of NXP’s NTAG family offering both contactless and contact interfaces (see Figure 1). In addition to the passive NFC Forum compliant contactless interface, the IC features an I²C contact interface, which can communicate with a microcontroller if the NTAG I2C is powered from an external power supply. An additional externally powered SRAM mapped into the memory allows a fast data transfer between the RF and I²C interfaces and vice versa, without the write cycle limitations of the EEPROM memory. The NTAG I2C product features a configurable Field Detection Pin, which provides a trigger to an external device depending on the activities at the RF interface. The NTAG I2C product can also supply power to external (low power) devices (e.g., a microcontroller) via the embedded energy harvesting circuitry    AAL Eindhoven MK
footprint SOT902-1/2/3
pins: 1 LA, 2 VSS, 3 SCL, 4 !FD, 5 SDA, 6 VCC, 7 VOUT, 8 LB

## NTS0102DP
designator U?, comment Dual supply translating transceiver; open drain; auto direction sensing
footprint SOT505-2
pins: 1 B2 (out), 2 GND (out), 3 VCC(A) (out), 4 A2 (out), 5 A1 (out), 6 OE (out), 7 VCC(B) (out), 8 B1 (out)

## NTS0102GD
designator U?, comment Dual supply translating transceiver; open drain; auto direction sensing
footprint SOT996-2/3
pins: 1 B2 (out), 2 GND (out), 3 VCC(A) (out), 4 A2 (out), 5 A1 (out), 6 OE (out), 7 VCC(B) (out), 8 B1 (out)

## NTS0102GF
designator U?, comment Dual supply translating transceiver; open drain; auto direction sensing
footprint SOT1089-1
pins: 1 B2 (out), 2 GND (out), 3 VCC(A) (out), 4 A2 (out), 5 A1 (out), 6 OE (out), 7 VCC(B) (out), 8 B1 (out)

## NTS0102GU
designator U?, comment Dual supply translating transceiver; open drain; auto direction sensing
footprint SOT1160-1
pins: 1 A2 (out), 2 VCC(A) (out), 4 OE (out), 5 B2 (out), 6 VCC(B) (out), 8 B1 (out), 9 GND (out), 10 A1 (out)

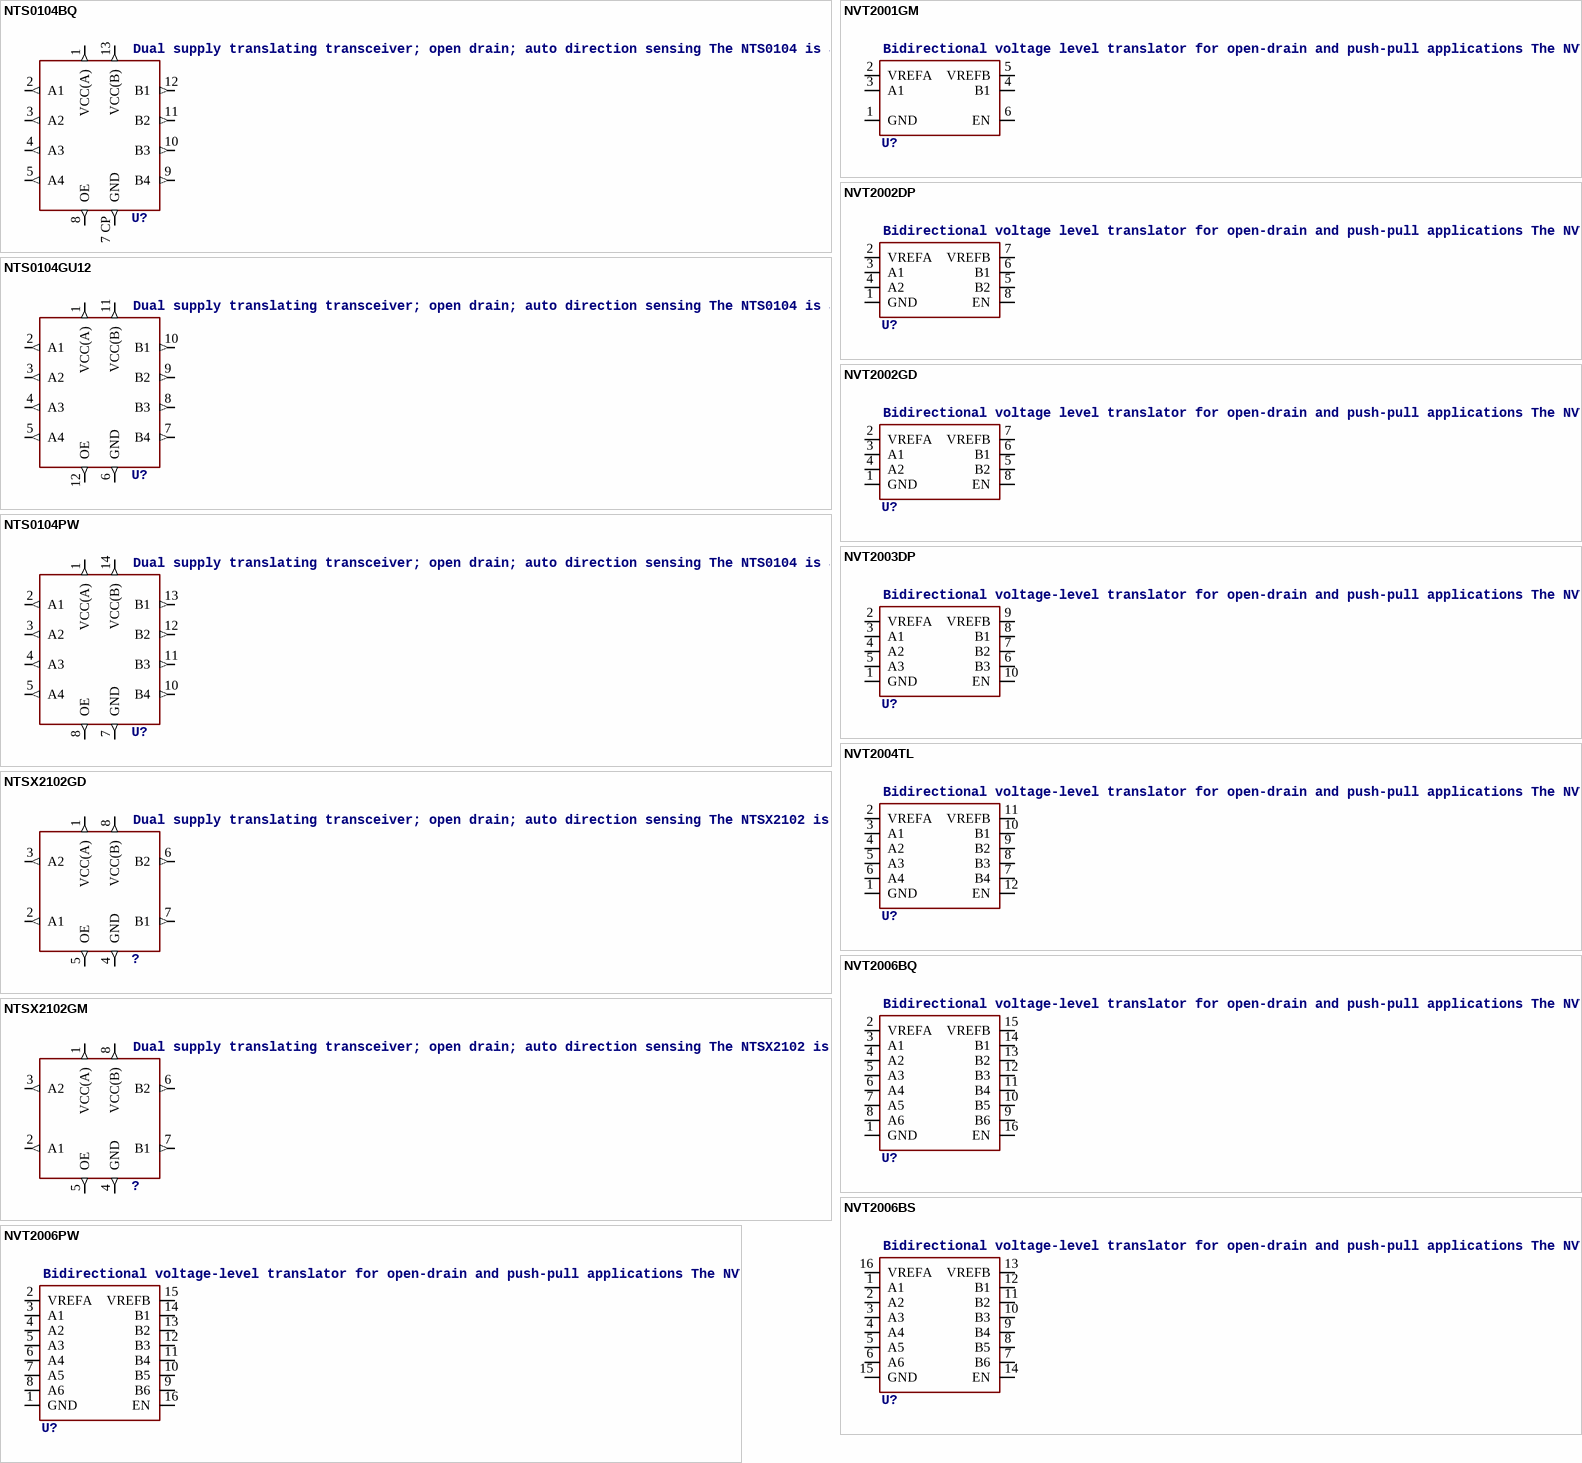
[diagram p154: symbols NTS0104BQ to NVT2006PW]

## NTS0104BQ
designator U?, comment Dual supply translating transceiver; open drain; auto direction sensing The NTS0104 is a 4-bit, dual supply translating transceiver with auto direction sensing, that enables bidirectional voltage level translation. It features two 4-bit input-output ports (An and Bn), one output enable input (OE) and two supply pins (VCC(A)  and VCC(B)). VCC(A) can be supplied at any voltage between 1.65 V and 3.6 V and VCC(B)  can be supplied at any voltage between 2.3 V and 5.5 V, making the device suitable for translating between any of the voltage nodes (1.8 V, 2.5 V, 3.3 V and 5.0 V). Pins An and OE are referenced to VCC(A) and pins Bn are referenced to VCC(B). A LOW level at pin OE causes the outputs to assume a high-impedance OFF-state. This device is fully specified for partial power-down applications using IOFF. The IOFF circuitry disables the output, preventing the damaging backflow current through the device when it is powered down.    AAL Eindhoven MK
footprint SOT762-1
pins: 1 VCC(A) (out), 2 A1 (out), 3 A2 (out), 4 A3 (out), 5 A4 (out), 7 CP GND (out), 8 OE (out), 9 B4 (out), 10 B3 (out), 11 B2 (out), 12 B1 (out), 13 VCC(B) (out)

## NTS0104GU12
designator U?, comment Dual supply translating transceiver; open drain; auto direction sensing The NTS0104 is a 4-bit, dual supply translating transceiver with auto direction sensing, that enables bidirectional voltage level translation. It features two 4-bit input-output ports (An and Bn), one output enable input (OE) and two supply pins (VCC(A)  and VCC(B)). VCC(A) can be supplied at any voltage between 1.65 V and 3.6 V and VCC(B)  can be supplied at any voltage between 2.3 V and 5.5 V, making the device suitable for translating between any of the voltage nodes (1.8 V, 2.5 V, 3.3 V and 5.0 V). Pins An and OE are referenced to VCC(A) and pins Bn are referenced to VCC(B). A LOW level at pin OE causes the outputs to assume a high-impedance OFF-state. This device is fully specified for partial power-down applications using IOFF. The IOFF circuitry disables the output, preventing the damaging backflow current through the device when it is powered down.    AAL Eindhoven MK
footprint SOT1174-1
pins: 1 VCC(A) (out), 2 A1 (out), 3 A2 (out), 4 A3 (out), 5 A4 (out), 6 GND (out), 7 B4 (out), 8 B3 (out), 9 B2 (out), 10 B1 (out), 11 VCC(B) (out), 12 OE (out)

## NTS0104PW
designator U?, comment Dual supply translating transceiver; open drain; auto direction sensing The NTS0104 is a 4-bit, dual supply translating transceiver with auto direction sensing, that enables bidirectional voltage level translation. It features two 4-bit input-output ports (An and Bn), one output enable input (OE) and two supply pins (VCC(A)  and VCC(B)). VCC(A) can be supplied at any voltage between 1.65 V and 3.6 V and VCC(B)  can be supplied at any voltage between 2.3 V and 5.5 V, making the device suitable for translating between any of the voltage nodes (1.8 V, 2.5 V, 3.3 V and 5.0 V). Pins An and OE are referenced to VCC(A) and pins Bn are referenced to VCC(B). A LOW level at pin OE causes the outputs to assume a high-impedance OFF-state. This device is fully specified for partial power-down applications using IOFF. The IOFF circuitry disables the output, preventing the damaging backflow current through the device when it is powered down.    AAL Eindhoven MK
footprint SOT402-1
pins: 1 VCC(A) (out), 2 A1 (out), 3 A2 (out), 4 A3 (out), 5 A4 (out), 7 GND (out), 8 OE (out), 10 B4 (out), 11 B3 (out), 12 B2 (out), 13 B1 (out), 14 VCC(B) (out)

## NTSX2102GD
designator ?, comment Dual supply translating transceiver; open drain; auto direction sensing The NTSX2102 is a 2-bit, dual supply translating transceiver with auto direction sensing, that enables bidirectional voltage level translation. It features two 2-bit input-output ports (An and Bn), one output enable input (OE) and two supply pins (VCC(A) and VCC(B)). Both supplies can be supplied at any voltage between 1.65 V and 5.5 V. This flexibility makes the device suitable for translating between any of the voltage nodes (1.8 V, 2.5 V, 3.3 V and 5.0 V). Pins An and OE are referenced to VCC(A) and pins Bn are referenced to VCC(B). A LOW level at pin OE causes the outputs to assume a high-impedance OFF-state. This device is fully specified for partial power-down applications using IOFF. The IOFF circuitry disables the output, preventing the damaging backflow current through the device when it is powered down.    AAL Eindhoven MK
footprint SOT996-2/3
pins: 1 VCC(A) (out), 2 A1 (out), 3 A2 (out), 4 GND (out), 5 OE (out), 6 B2 (out), 7 B1 (out), 8 VCC(B) (out)

## NTSX2102GM
designator ?, comment Dual supply translating transceiver; open drain; auto direction sensing The NTSX2102 is a 2-bit, dual supply translating transceiver with auto direction sensing, that enables bidirectional voltage level translation. It features two 2-bit input-output ports (An and Bn), one output enable input (OE) and two supply pins (VCC(A) and VCC(B)). Both supplies can be supplied at any voltage between 1.65 V and 5.5 V. This flexibility makes the device suitable for translating between any of the voltage nodes (1.8 V, 2.5 V, 3.3 V and 5.0 V). Pins An and OE are referenced to VCC(A) and pins Bn are referenced to VCC(B). A LOW level at pin OE causes the outputs to assume a high-impedance OFF-state. This device is fully specified for partial power-down applications using IOFF. The IOFF circuitry disables the output, preventing the damaging backflow current through the device when it is powered down.    AAL Eindhoven MK
footprint SOT902-1/2/3
pins: 1 VCC(A) (out), 2 A1 (out), 3 A2 (out), 4 GND (out), 5 OE (out), 6 B2 (out), 7 B1 (out), 8 VCC(B) (out)

## NVT2001GM
designator U?, comment Bidirectional voltage level translator for open-drain and push-pull applications The NVT2001/02 are bidirectional voltage level translators operational from 1.0 V to 3.6 V (Vref(A)) and 1.8 V to 5.5 V (Vref(B)), which allow bidirectional voltage translations between 1.0 V and 5 V without the need for a direction pin in open-drain or push-pull applications. Bit widths ranging from 1-bit or 2-bit are offered for level translation application with transmission speeds up to 33 MHz for an open-drain system with a 50 pF capacitance and a pull-up of 197 . When the An or Bn port is LOW, the clamp is in the ON-state and a low resistance connection exists between the An and Bn ports. The low ON-state resistance (Ron) of the switch allows connections to be made with minimal propagation delay. Assuming the higher voltage is on the Bn port when the Bn port is HIGH, the voltage on the An port is limited to the voltage set by VREFA. When the An port is HIGH, the Bn port is pulled to the drain pull-up supply voltage (Vpu(D)) by the pull-up resistors. This functionality allows a seamless translation between higher and lower voltages selected by the user without the need for directional control. When EN is HIGH, the translator switch is on, and the An I/O are connected to the Bn I/O, respectively, allowing bidirectional data flow between ports. When EN is LOW, the translator switch is off, and a high-impedance state exists between ports. The EN input circuit is designed to be supplied by Vref(B). To ensure the high-impedance state during power-up or power-down, EN must be LOW. All channels have the same electrical characteristics and there is minimal deviation from one output to another in voltage or propagation delay. This is a benefit over discrete transistor voltage translation solutions, since the fabrication of the switch is symmetrical. The translator provides excellent ESD protection to lower voltage devices, and at the same time protects less ESD-resistant devices    AAL Eindhoven MK
footprint SOT886
pins: 1 GND (power), 2 VREFA (power), 3 A1, 4 B1, 5 VREFB (power), 6 EN

## NVT2002DP
designator U?, comment Bidirectional voltage level translator for open-drain and push-pull applications The NVT2001/02 are bidirectional voltage level translators operational from 1.0 V to 3.6 V (Vref(A)) and 1.8 V to 5.5 V (Vref(B)), which allow bidirectional voltage translations between 1.0 V and 5 V without the need for a direction pin in open-drain or push-pull applications. Bit widths ranging from 1-bit or 2-bit are offered for level translation application with transmission speeds  33 MHz for an open-drain system with a 50 pF capacitance and a pull-up of 197. When the An or Bn port is LOW, the clamp is in the ON-state and a low resistance connection exists between the An and Bn ports. The low ON-state resistance (Ron) of the switch allows connections to be made with minimal propagation delay. Assuming the higher voltage is on the Bn port when the Bn port is HIGH, the voltage on the An port is limited to the voltage set by VREFA. When the An port is HIGH, the Bn port is pulled to the drain pull-up supply voltage (Vpu(D)) by the pull-up resistors. This functionality allows a seamless translation between higher and lower voltages selected by the user without the need for directional control. When EN is HIGH, the translator switch is on, and the An I/O are connected to the Bn I/O, respectively, allowing bidirectional data flow between ports. When EN is LOW, the translator switch is off, and a high-impedance state exists between ports. The EN input circuit is designed to be supplied by Vref(B). To ensure the high-impedance state during power-up or power-down, EN must be LOW. All channels have the same electrical characteristics and there is minimal deviation from one output to another in voltage or propagation delay. This is a benefit over discrete transistor voltage translation solutions, since the fabrication of the switch is symmetrical. The translator provides excellent ESD protection to lower voltage devices, and at the same time protects less ESD-resistant devices.    AAL Eindhoven MK
footprint SOT505-1
pins: 1 GND (power), 2 VREFA (power), 3 A1, 4 A2, 5 B2, 6 B1, 7 VREFB (power), 8 EN

## NVT2002GD
designator U?, comment Bidirectional voltage level translator for open-drain and push-pull applications The NVT2001/02 are bidirectional voltage level translators operational from 1.0 V to 3.6 V (Vref(A)) and 1.8 V to 5.5 V (Vref(B)), which allow bidirectional voltage translations between 1.0 V and 5 V without the need for a direction pin in open-drain or push-pull applications. Bit widths ranging from 1-bit or 2-bit are offered for level translation application with transmission speeds  33 MHz for an open-drain system with a 50 pF capacitance and a pull-up of 197. When the An or Bn port is LOW, the clamp is in the ON-state and a low resistance connection exists between the An and Bn ports. The low ON-state resistance (Ron) of the switch allows connections to be made with minimal propagation delay. Assuming the higher voltage is on the Bn port when the Bn port is HIGH, the voltage on the An port is limited to the voltage set by VREFA. When the An port is HIGH, the Bn port is pulled to the drain pull-up supply voltage (Vpu(D)) by the pull-up resistors. This functionality allows a seamless translation between higher and lower voltages selected by the user without the need for directional control. When EN is HIGH, the translator switch is on, and the An I/O are connected to the Bn I/O, respectively, allowing bidirectional data flow between ports. When EN is LOW, the translator switch is off, and a high-impedance state exists between ports. The EN input circuit is designed to be supplied by Vref(B). To ensure the high-impedance state during power-up or power-down, EN must be LOW. All channels have the same electrical characteristics and there is minimal deviation from one output to another in voltage or propagation delay. This is a benefit over discrete transistor voltage translation solutions, since the fabrication of the switch is symmetrical. The translator provides excellent ESD protection to lower voltage devices, and at the same time protects less ESD-resistant devices.    AAL Eindhoven MK
footprint SOT996-2/3
pins: 1 GND (power), 2 VREFA (power), 3 A1, 4 A2, 5 B2, 6 B1, 7 VREFB (power), 8 EN

## NVT2003DP
designator U?, comment Bidirectional voltage-level translator for open-drain and push-pull applications The NVT2003/04/06 is a family of bidirectional voltage level translators operational from 1.0 V to 3.6 V (Vref(A)) and 1.8 V to 5.5 V (Vref(B)), which allow bidirectional voltage translations between 1.0 V and 5 V without the need for a direction pin in open-drain or push-pull applications. Bit widths ranging from 3-bit to 6-bit are offered for level translation application with transmission speeds up to 33 MHz for an open-drain system with a 50 pF capacitance and a pull-up of 197 . When the An or Bn port is LOW, the clamp is in the ON-state and a low resistance connection exists between the An and Bn ports. The low ON-state resistance (Ron) of the switch allows connections to be made with minimal propagation delay. Assuming the higher voltage is on the Bn port when the Bn port is HIGH, the voltage on the An port is limited to the voltage set by VREFA. When the An port is HIGH, the Bn port is pulled to the drain pull-up supply voltage (Vpu(D)) by the pull-up resistors. This functionality allows a seamless translation between higher and lower voltages selected by the user without the need for directional control. When EN is HIGH, the translator switch is on, and the An I/O are connected to the Bn I/O, respectively, allowing bidirectional data flow between ports. When EN is LOW, the translator switch is off, and a high-impedance state exists between ports. The EN input circuit is designed to be supplied by Vref(B). To ensure the high-impedance state during power-up or power-down, EN must be LOW. All channels have the same electrical characteristics and there is minimal deviation from one output to another in voltage or propagation delay. This is a benefit over discrete transistor voltage translation solutions, since the fabrication of the switch is symmetrical. The translator provides excellent ESD protection to lower voltage devices, and at the same time protects less ESD-resistant devices.    AAL Eindhoven MK
footprint SOT552-1
pins: 1 GND (power), 2 VREFA (power), 3 A1, 4 A2, 5 A3, 6 B3, 7 B2, 8 B1, 9 VREFB (power), 10 EN

## NVT2004TL
designator U?, comment Bidirectional voltage-level translator for open-drain and push-pull applications The NVT2003/04/06 is a family of bidirectional voltage level translators operational from 1.0 V to 3.6 V (Vref(A)) and 1.8 V to 5.5 V (Vref(B)), which allow bidirectional voltage translations between 1.0 V and 5 V without the need for a direction pin in open-drain or push-pull applications. Bit widths ranging from 3-bit to 6-bit are offered for level translation application with transmission speeds up to 33 MHz for an open-drain system with a 50 pF capacitance and a pull-up of 197 . When the An or Bn port is LOW, the clamp is in the ON-state and a low resistance connection exists between the An and Bn ports. The low ON-state resistance (Ron) of the switch allows connections to be made with minimal propagation delay. Assuming the higher voltage is on the Bn port when the Bn port is HIGH, the voltage on the An port is limited to the voltage set by VREFA. When the An port is HIGH, the Bn port is pulled to the drain pull-up supply voltage (Vpu(D)) by the pull-up resistors. This functionality allows a seamless translation between higher and lower voltages selected by the user without the need for directional control. When EN is HIGH, the translator switch is on, and the An I/O are connected to the Bn I/O, respectively, allowing bidirectional data flow between ports. When EN is LOW, the translator switch is off, and a high-impedance state exists between ports. The EN input circuit is designed to be supplied by Vref(B). To ensure the high-impedance state during power-up or power-down, EN must be LOW. All channels have the same electrical characteristics and there is minimal deviation from one output to another in voltage or propagation delay. This is a benefit over discrete transistor voltage translation solutions, since the fabrication of the switch is symmetrical. The translator provides excellent ESD protection to lower voltage devices, and at the same time protects less ESD-resistant devices.    AAL Eindhoven MK
footprint SOT973-2
pins: 1 GND (power), 2 VREFA (power), 3 A1, 4 A2, 5 A3, 6 A4, 7 B4, 8 B3, 9 B2, 10 B1, 11 VREFB (power), 12 EN

## NVT2006BQ
designator U?, comment Bidirectional voltage-level translator for open-drain and push-pull applications The NVT2003/04/06 is a family of bidirectional voltage level translators operational from 1.0 V to 3.6 V (Vref(A)) and 1.8 V to 5.5 V (Vref(B)), which allow bidirectional voltage translations between 1.0 V and 5 V without the need for a direction pin in open-drain or push-pull applications. Bit widths ranging from 3-bit to 6-bit are offered for level translation application with transmission speeds up to 33 MHz for an open-drain system with a 50 pF capacitance and a pull-up of 197 . When the An or Bn port is LOW, the clamp is in the ON-state and a low resistance connection exists between the An and Bn ports. The low ON-state resistance (Ron) of the switch allows connections to be made with minimal propagation delay. Assuming the higher voltage is on the Bn port when the Bn port is HIGH, the voltage on the An port is limited to the voltage set by VREFA. When the An port is HIGH, the Bn port is pulled to the drain pull-up supply voltage (Vpu(D)) by the pull-up resistors. This functionality allows a seamless translation between higher and lower voltages selected by the user without the need for directional control. When EN is HIGH, the translator switch is on, and the An I/O are connected to the Bn I/O, respectively, allowing bidirectional data flow between ports. When EN is LOW, the translator switch is off, and a high-impedance state exists between ports. The EN input circuit is designed to be supplied by Vref(B). To ensure the high-impedance state during power-up or power-down, EN must be LOW. All channels have the same electrical characteristics and there is minimal deviation from one output to another in voltage or propagation delay. This is a benefit over discrete transistor voltage translation solutions, since the fabrication of the switch is symmetrical. The translator provides excellent ESD protection to lower voltage devices, and at the same time protects less ESD-resistant devices.    AAL Eindhoven MK
footprint SOT763
pins: 1 GND (power), 2 VREFA (power), 3 A1, 4 A2, 5 A3, 6 A4, 7 A5, 8 A6, 9 B6, 10 B5, 11 B4, 12 B3, 13 B2, 14 B1, 15 VREFB (power), 16 EN

## NVT2006BS
designator U?, comment Bidirectional voltage-level translator for open-drain and push-pull applications The NVT2003/04/06 is a family of bidirectional voltage level translators operational from 1.0 V to 3.6 V (Vref(A)) and 1.8 V to 5.5 V (Vref(B)), which allow bidirectional voltage translations between 1.0 V and 5 V without the need for a direction pin in open-drain or push-pull applications. Bit widths ranging from 3-bit to 6-bit are offered for level translation application with transmission speeds up to 33 MHz for an open-drain system with a 50 pF capacitance and a pull-up of 197 . When the An or Bn port is LOW, the clamp is in the ON-state and a low resistance connection exists between the An and Bn ports. The low ON-state resistance (Ron) of the switch allows connections to be made with minimal propagation delay. Assuming the higher voltage is on the Bn port when the Bn port is HIGH, the voltage on the An port is limited to the voltage set by VREFA. When the An port is HIGH, the Bn port is pulled to the drain pull-up supply voltage (Vpu(D)) by the pull-up resistors. This functionality allows a seamless translation between higher and lower voltages selected by the user without the need for directional control. When EN is HIGH, the translator switch is on, and the An I/O are connected to the Bn I/O, respectively, allowing bidirectional data flow between ports. When EN is LOW, the translator switch is off, and a high-impedance state exists between ports. The EN input circuit is designed to be supplied by Vref(B). To ensure the high-impedance state during power-up or power-down, EN must be LOW. All channels have the same electrical characteristics and there is minimal deviation from one output to another in voltage or propagation delay. This is a benefit over discrete transistor voltage translation solutions, since the fabrication of the switch is symmetrical. The translator provides excellent ESD protection to lower voltage devices, and at the same time protects less ESD-resistant devices.    AAL Eindhoven MK
footprint SOT758-1
pins: 1 A1, 2 A2, 3 A3, 4 A4, 5 A5, 6 A6, 7 B6, 8 B5, 9 B4, 10 B3, 11 B2, 12 B1, 13 VREFB (power), 14 EN, 15 GND (power), 16 VREFA (power)

## NVT2006PW
designator U?, comment Bidirectional voltage-level translator for open-drain and push-pull applications The NVT2003/04/06 is a family of bidirectional voltage level translators operational from 1.0 V to 3.6 V (Vref(A)) and 1.8 V to 5.5 V (Vref(B)), which allow bidirectional voltage translations between 1.0 V and 5 V without the need for a direction pin in open-drain or push-pull applications. Bit widths ranging from 3-bit to 6-bit are offered for level translation application with transmission speeds up to 33 MHz for an open-drain system with a 50 pF capacitance and a pull-up of 197 . When the An or Bn port is LOW, the clamp is in the ON-state and a low resistance connection exists between the An and Bn ports. The low ON-state resistance (Ron) of the switch allows connections to be made with minimal propagation delay. Assuming the higher voltage is on the Bn port when the Bn port is HIGH, the voltage on the An port is limited to the voltage set by VREFA. When the An port is HIGH, the Bn port is pulled to the drain pull-up supply voltage (Vpu(D)) by the pull-up resistors. This functionality allows a seamless translation between higher and lower voltages selected by the user without the need for directional control. When EN is HIGH, the translator switch is on, and the An I/O are connected to the Bn I/O, respectively, allowing bidirectional data flow between ports. When EN is LOW, the translator switch is off, and a high-impedance state exists between ports. The EN input circuit is designed to be supplied by Vref(B). To ensure the high-impedance state during power-up or power-down, EN must be LOW. All channels have the same electrical characteristics and there is minimal deviation from one output to another in voltage or propagation delay. This is a benefit over discrete transistor voltage translation solutions, since the fabrication of the switch is symmetrical. The translator provides excellent ESD protection to lower voltage devices, and at the same time protects less ESD-resistant devices.    AAL Eindhoven MK
footprint SOT403-1
pins: 1 GND (power), 2 VREFA (power), 3 A1, 4 A2, 5 A3, 6 A4, 7 A5, 8 A6, 9 B6, 10 B5, 11 B4, 12 B3, 13 B2, 14 B1, 15 VREFB (power), 16 EN

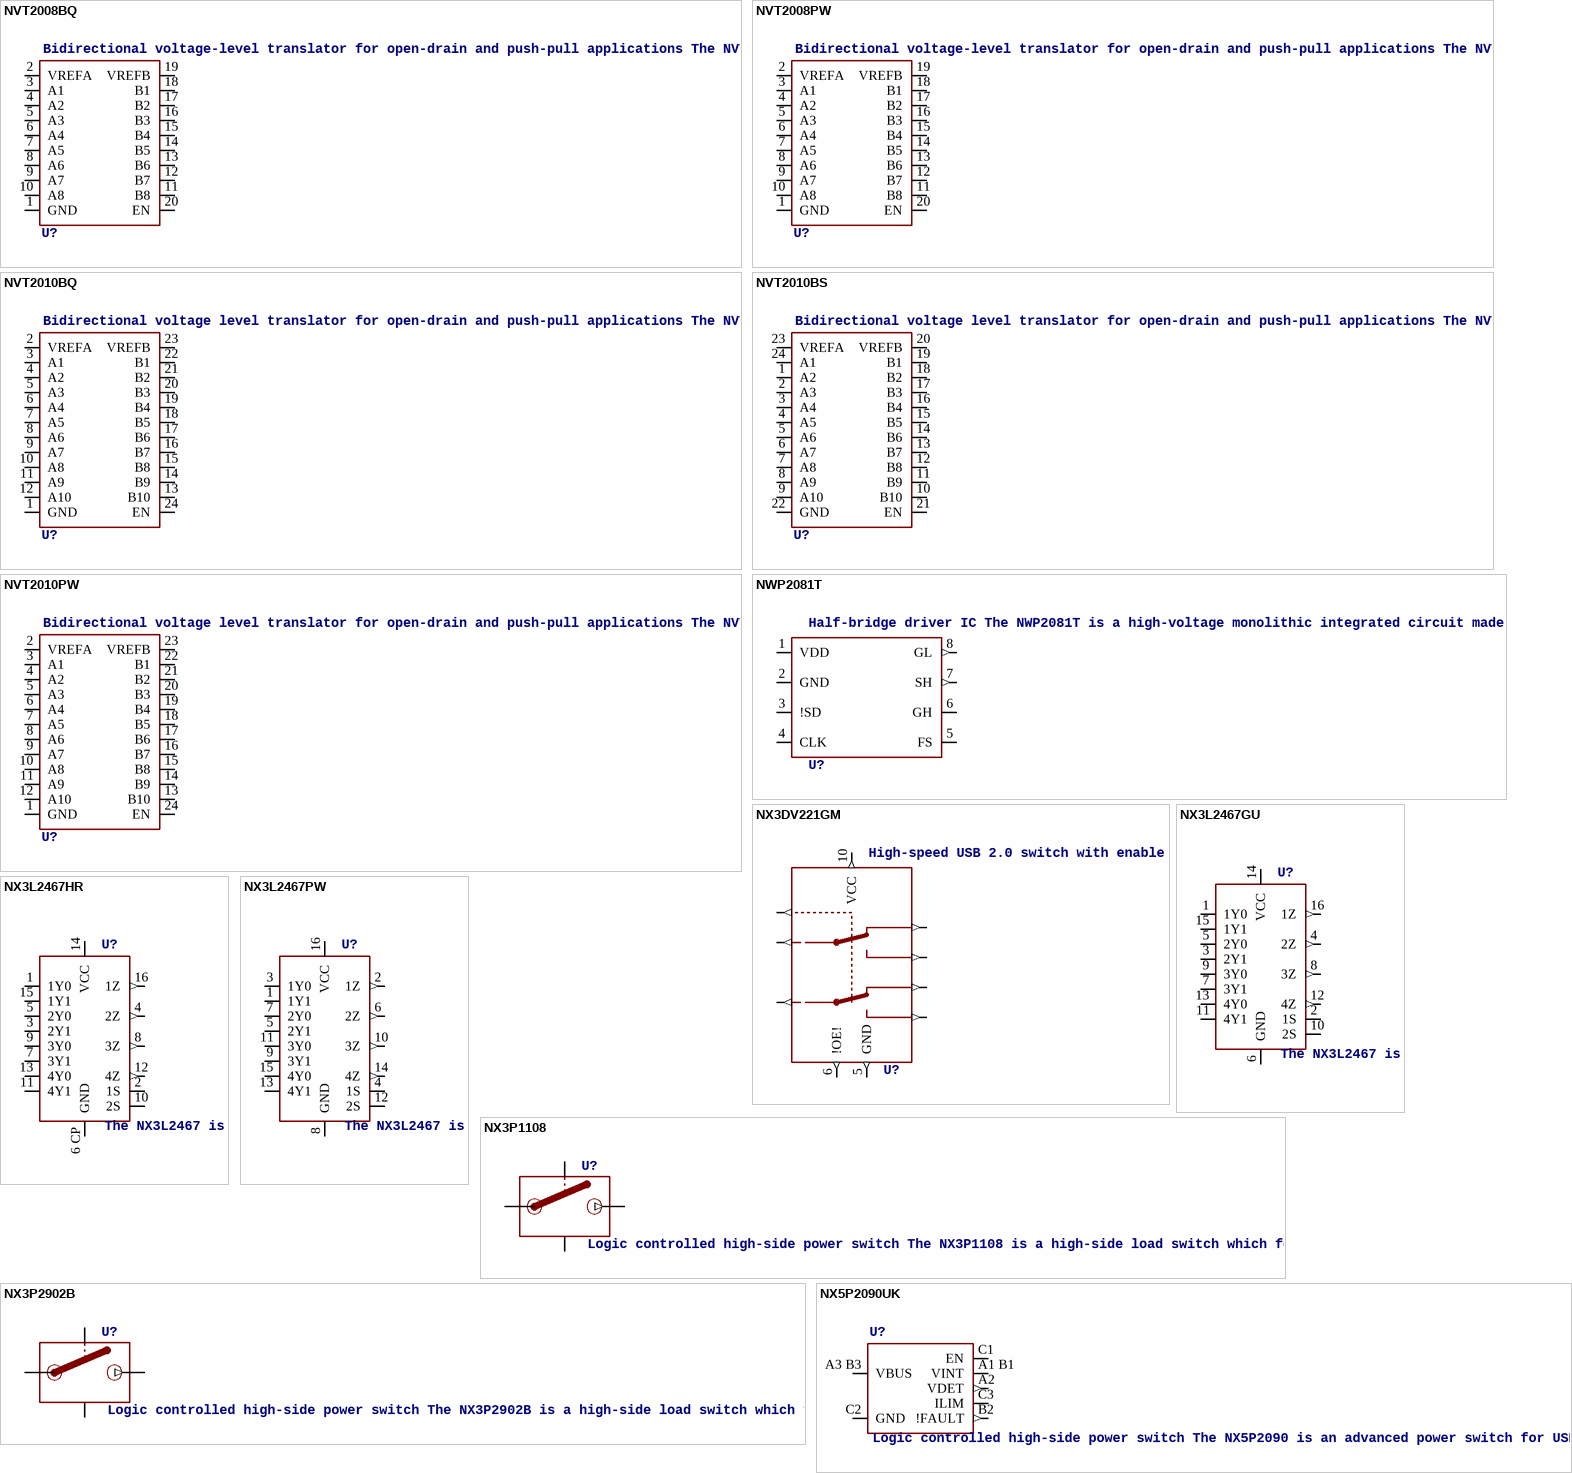
[diagram p155: symbols NVT2008BQ to NX5P2090UK]

## NVT2008BQ
designator U?, comment Bidirectional voltage-level translator for open-drain and push-pull applications The NVT2008/NVT2010 are bidirectional voltage level translators operational from 1.0 V to 3.6 V (Vref(A)) and 1.8 V to 5.5 V (Vref(B)), which allow bidirectional voltage translations between 1.0 V and 5 V without the need for a direction pin in open-drain or push-pull applications. Bit widths of 8-bit to 10-bit are offered for level translation application with transmission speeds up to 33 MHz for an open-drain system with a 50 pF capacitance and a pull-up of 197 . When the An or Bn port is LOW, the clamp is in the ON-state and a low resistance connection exists between the An and Bn ports. The low ON-state resistance (Ron) of the switch allows connections to be made with minimal propagation delay. Assuming the higher voltage is on the Bn port when the Bn port is HIGH, the voltage on the An port is limited to the voltage set by VREFA. When the An port is HIGH, the Bn port is pulled to the drain pull-up supply voltage (Vpu(D)) by the pull-up resistors. This functionality allows a seamless translation between higher and lower voltages selected by the user without the need for directional control. When EN is HIGH, the translator switch is on, and the An I/O are connected to the Bn I/O, respectively, allowing bidirectional data flow between ports. When EN is LOW, the translator switch is off, and a high-impedance state exists between ports. The EN input circuit is designed to be supplied by Vref(B). To ensure the high-impedance state during power-up or power-down, EN must be LOW. All channels have the same electrical characteristics and there is minimal deviation from one output to another in voltage or propagation delay. This is a benefit over discrete transistor voltage translation solutions, since the fabrication of the switch is symmetrical. The translator provides excellent ESD protection to lower voltage devices, and at the same time protects less ESD-resistant devices.    AAL Eindhoven MK
footprint SOT764
pins: 1 GND (power), 2 VREFA (power), 3 A1, 4 A2, 5 A3, 6 A4, 7 A5, 8 A6, 9 A7, 10 A8, 11 B8, 12 B7, 13 B6, 14 B5, 15 B4, 16 B3, 17 B2, 18 B1, 19 VREFB (power), 20 EN